# Altium schematic symbol library MCU_Texas_MSP430.SchLib: 361 symbols (part 9 of 9)
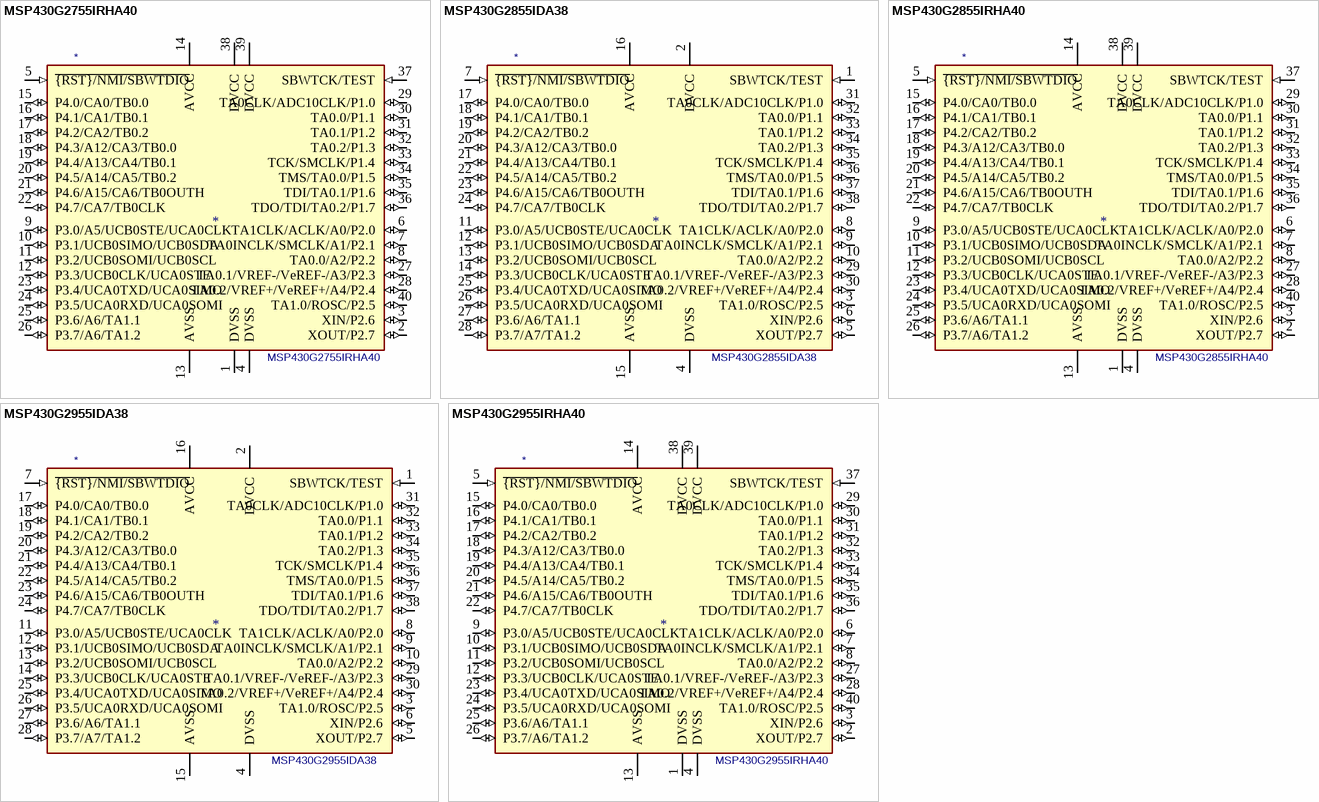
[diagram p42: symbols MSP430G2755IRHA40 to MSP430G2955IRHA40]

## MSP430G2755IRHA40
designator *  value MSP430G2755IRHA40
ki_keywords: TI MSP430 16-bit mixed signal microcontroller; ki_description: 32kB Flash, 4kB RAM, QFN-40; ki_fp_filters: Texas*S?PVQFN*; Footprint: Package_DFN_QFN:Texas_S-PVQFN-N40_EP4.15x4.15mm; Supplier: http://www.ti.com/lit/ds/symlink/msp430g2755.pdf
footprint Texas_S-PVQFN-N40_EP4.15x4.15mm
pins: 1 DVSS (power), 2 XOUT/P2.7 (io), 3 XIN/P2.6 (io), 4 DVSS (power), 5 ~{{RST}/NMI/SBWTDIO} (in), 6 TA1CLK/ACLK/A0/P2.0 (io), 7 TA0INCLK/SMCLK/A1/P2.1 (io), 8 TA0.0/A2/P2.2 (io), 9 P3.0/A5/UCB0STE/UCA0CLK (io), 10 P3.1/UCB0SIMO/UCB0SDA (io), 11 P3.2/UCB0SOMI/UCB0SCL (io), 12 P3.3/UCB0CLK/UCA0STE (io), 13 AVSS (power), 14 AVCC (power), 15 P4.0/CA0/TB0.0 (io), 16 P4.1/CA1/TB0.1 (io), 17 P4.2/CA2/TB0.2 (io), 18 P4.3/A12/CA3/TB0.0 (io), 19 P4.4/A13/CA4/TB0.1 (io), 20 P4.5/A14/CA5/TB0.2 (io), 21 P4.6/A15/CA6/TB0OUTH (io), 22 P4.7/CA7/TB0CLK (io), 23 P3.4/UCA0TXD/UCA0SIMO (io), 24 P3.5/UCA0RXD/UCA0SOMI (io), 25 P3.6/A6/TA1.1 (io), 26 P3.7/A6/TA1.2 (io), 27 TA0.1/VREF-/VeREF-/A3/P2.3 (io), 28 TA0.2/VREF+/VeREF+/A4/P2.4 (io), 29 TA0CLK/ADC10CLK/P1.0 (io), 30 TA0.0/P1.1 (io), 31 TA0.1/P1.2 (io), 32 TA0.2/P1.3 (io), 33 TCK/SMCLK/P1.4 (io), 34 TMS/TA0.0/P1.5 (io), 35 TDI/TA0.1/P1.6 (io), 36 TDO/TDI/TA0.2/P1.7 (io), 37 SBWTCK/TEST (in), 38 DVCC (power), 39 DVCC (power), 40 TA1.0/ROSC/P2.5 (io)

## MSP430G2855IDA38
designator *  value MSP430G2855IDA38
ki_keywords: TI MSP430 16-bit mixed signal microcontroller; ki_description: 48kB Flash, 4kB RAM, TSSOP-38; ki_fp_filters: TSSOP*6.1x12.5mm*P0.65mm*; Footprint: Package_SO:TSSOP-38_6.1x12.5mm_P0.65mm; Supplier: http://www.ti.com/lit/ds/symlink/msp430g2855.pdf
footprint TSSOP-38_6.1x12.5mm_P0.65mm
pins: 1 SBWTCK/TEST (in), 2 DVCC (power), 3 TA1.0/ROSC/P2.5 (io), 4 DVSS (power), 5 XOUT/P2.7 (io), 6 XIN/P2.6 (io), 7 ~{{RST}/NMI/SBWTDIO} (in), 8 TA1CLK/ACLK/A0/P2.0 (io), 9 TA0INCLK/SMCLK/A1/P2.1 (io), 10 TA0.0/A2/P2.2 (io), 11 P3.0/A5/UCB0STE/UCA0CLK (io), 12 P3.1/UCB0SIMO/UCB0SDA (io), 13 P3.2/UCB0SOMI/UCB0SCL (io), 14 P3.3/UCB0CLK/UCA0STE (io), 15 AVSS (power), 16 AVCC (power), 17 P4.0/CA0/TB0.0 (io), 18 P4.1/CA1/TB0.1 (io), 19 P4.2/CA2/TB0.2 (io), 20 P4.3/A12/CA3/TB0.0 (io), 21 P4.4/A13/CA4/TB0.1 (io), 22 P4.5/A14/CA5/TB0.2 (io), 23 P4.6/A15/CA6/TB0OUTH (io), 24 P4.7/CA7/TB0CLK (io), 25 P3.4/UCA0TXD/UCA0SIMO (io), 26 P3.5/UCA0RXD/UCA0SOMI (io), 27 P3.6/A6/TA1.1 (io), 28 P3.7/A7/TA1.2 (io), 29 TA0.1/VREF-/VeREF-/A3/P2.3 (io), 30 TA0.2/VREF+/VeREF+/A4/P2.4 (io), 31 TA0CLK/ADC10CLK/P1.0 (io), 32 TA0.0/P1.1 (io), 33 TA0.1/P1.2 (io), 34 TA0.2/P1.3 (io), 35 TCK/SMCLK/P1.4 (io), 36 TMS/TA0.0/P1.5 (io), 37 TDI/TA0.1/P1.6 (io), 38 TDO/TDI/TA0.2/P1.7 (io)

## MSP430G2855IRHA40
designator *  value MSP430G2855IRHA40
ki_keywords: TI MSP430 16-bit mixed signal microcontroller; ki_description: 48kB Flash, 4kB RAM, QFN-40; ki_fp_filters: Texas*S?PVQFN*; Footprint: Package_DFN_QFN:Texas_S-PVQFN-N40_EP4.15x4.15mm; Supplier: http://www.ti.com/lit/ds/symlink/msp430g2855.pdf
footprint Texas_S-PVQFN-N40_EP4.15x4.15mm
pins: 1 DVSS (power), 2 XOUT/P2.7 (io), 3 XIN/P2.6 (io), 4 DVSS (power), 5 ~{{RST}/NMI/SBWTDIO} (in), 6 TA1CLK/ACLK/A0/P2.0 (io), 7 TA0INCLK/SMCLK/A1/P2.1 (io), 8 TA0.0/A2/P2.2 (io), 9 P3.0/A5/UCB0STE/UCA0CLK (io), 10 P3.1/UCB0SIMO/UCB0SDA (io), 11 P3.2/UCB0SOMI/UCB0SCL (io), 12 P3.3/UCB0CLK/UCA0STE (io), 13 AVSS (power), 14 AVCC (power), 15 P4.0/CA0/TB0.0 (io), 16 P4.1/CA1/TB0.1 (io), 17 P4.2/CA2/TB0.2 (io), 18 P4.3/A12/CA3/TB0.0 (io), 19 P4.4/A13/CA4/TB0.1 (io), 20 P4.5/A14/CA5/TB0.2 (io), 21 P4.6/A15/CA6/TB0OUTH (io), 22 P4.7/CA7/TB0CLK (io), 23 P3.4/UCA0TXD/UCA0SIMO (io), 24 P3.5/UCA0RXD/UCA0SOMI (io), 25 P3.6/A6/TA1.1 (io), 26 P3.7/A6/TA1.2 (io), 27 TA0.1/VREF-/VeREF-/A3/P2.3 (io), 28 TA0.2/VREF+/VeREF+/A4/P2.4 (io), 29 TA0CLK/ADC10CLK/P1.0 (io), 30 TA0.0/P1.1 (io), 31 TA0.1/P1.2 (io), 32 TA0.2/P1.3 (io), 33 TCK/SMCLK/P1.4 (io), 34 TMS/TA0.0/P1.5 (io), 35 TDI/TA0.1/P1.6 (io), 36 TDO/TDI/TA0.2/P1.7 (io), 37 SBWTCK/TEST (in), 38 DVCC (power), 39 DVCC (power), 40 TA1.0/ROSC/P2.5 (io)

## MSP430G2955IDA38
designator *  value MSP430G2955IDA38
ki_keywords: TI MSP430 16-bit mixed signal microcontroller; ki_description: 56kB Flash, 4kB RAM, TSSOP-38; ki_fp_filters: TSSOP*6.1x12.5mm*P0.65mm*; Footprint: Package_SO:TSSOP-38_6.1x12.5mm_P0.65mm; Supplier: http://www.ti.com/lit/ds/symlink/msp430g2955.pdf
footprint TSSOP-38_6.1x12.5mm_P0.65mm
pins: 1 SBWTCK/TEST (in), 2 DVCC (power), 3 TA1.0/ROSC/P2.5 (io), 4 DVSS (power), 5 XOUT/P2.7 (io), 6 XIN/P2.6 (io), 7 ~{{RST}/NMI/SBWTDIO} (in), 8 TA1CLK/ACLK/A0/P2.0 (io), 9 TA0INCLK/SMCLK/A1/P2.1 (io), 10 TA0.0/A2/P2.2 (io), 11 P3.0/A5/UCB0STE/UCA0CLK (io), 12 P3.1/UCB0SIMO/UCB0SDA (io), 13 P3.2/UCB0SOMI/UCB0SCL (io), 14 P3.3/UCB0CLK/UCA0STE (io), 15 AVSS (power), 16 AVCC (power), 17 P4.0/CA0/TB0.0 (io), 18 P4.1/CA1/TB0.1 (io), 19 P4.2/CA2/TB0.2 (io), 20 P4.3/A12/CA3/TB0.0 (io), 21 P4.4/A13/CA4/TB0.1 (io), 22 P4.5/A14/CA5/TB0.2 (io), 23 P4.6/A15/CA6/TB0OUTH (io), 24 P4.7/CA7/TB0CLK (io), 25 P3.4/UCA0TXD/UCA0SIMO (io), 26 P3.5/UCA0RXD/UCA0SOMI (io), 27 P3.6/A6/TA1.1 (io), 28 P3.7/A7/TA1.2 (io), 29 TA0.1/VREF-/VeREF-/A3/P2.3 (io), 30 TA0.2/VREF+/VeREF+/A4/P2.4 (io), 31 TA0CLK/ADC10CLK/P1.0 (io), 32 TA0.0/P1.1 (io), 33 TA0.1/P1.2 (io), 34 TA0.2/P1.3 (io), 35 TCK/SMCLK/P1.4 (io), 36 TMS/TA0.0/P1.5 (io), 37 TDI/TA0.1/P1.6 (io), 38 TDO/TDI/TA0.2/P1.7 (io)

## MSP430G2955IRHA40
designator *  value MSP430G2955IRHA40
ki_keywords: TI MSP430 16-bit mixed signal microcontroller; ki_description: 56kB Flash, 4kB RAM, QFN-40; ki_fp_filters: Texas*S?PVQFN*; Footprint: Package_DFN_QFN:Texas_S-PVQFN-N40_EP4.15x4.15mm; Supplier: http://www.ti.com/lit/ds/symlink/msp430g2955.pdf
footprint Texas_S-PVQFN-N40_EP4.15x4.15mm
pins: 1 DVSS (power), 2 XOUT/P2.7 (io), 3 XIN/P2.6 (io), 4 DVSS (power), 5 ~{{RST}/NMI/SBWTDIO} (in), 6 TA1CLK/ACLK/A0/P2.0 (io), 7 TA0INCLK/SMCLK/A1/P2.1 (io), 8 TA0.0/A2/P2.2 (io), 9 P3.0/A5/UCB0STE/UCA0CLK (io), 10 P3.1/UCB0SIMO/UCB0SDA (io), 11 P3.2/UCB0SOMI/UCB0SCL (io), 12 P3.3/UCB0CLK/UCA0STE (io), 13 AVSS (power), 14 AVCC (power), 15 P4.0/CA0/TB0.0 (io), 16 P4.1/CA1/TB0.1 (io), 17 P4.2/CA2/TB0.2 (io), 18 P4.3/A12/CA3/TB0.0 (io), 19 P4.4/A13/CA4/TB0.1 (io), 20 P4.5/A14/CA5/TB0.2 (io), 21 P4.6/A15/CA6/TB0OUTH (io), 22 P4.7/CA7/TB0CLK (io), 23 P3.4/UCA0TXD/UCA0SIMO (io), 24 P3.5/UCA0RXD/UCA0SOMI (io), 25 P3.6/A6/TA1.1 (io), 26 P3.7/A6/TA1.2 (io), 27 TA0.1/VREF-/VeREF-/A3/P2.3 (io), 28 TA0.2/VREF+/VeREF+/A4/P2.4 (io), 29 TA0CLK/ADC10CLK/P1.0 (io), 30 TA0.0/P1.1 (io), 31 TA0.1/P1.2 (io), 32 TA0.2/P1.3 (io), 33 TCK/SMCLK/P1.4 (io), 34 TMS/TA0.0/P1.5 (io), 35 TDI/TA0.1/P1.6 (io), 36 TDO/TDI/TA0.2/P1.7 (io), 37 SBWTCK/TEST (in), 38 DVCC (power), 39 DVCC (power), 40 TA1.0/ROSC/P2.5 (io)